# EAGLE library part MPU-9150 (library multi_fly)
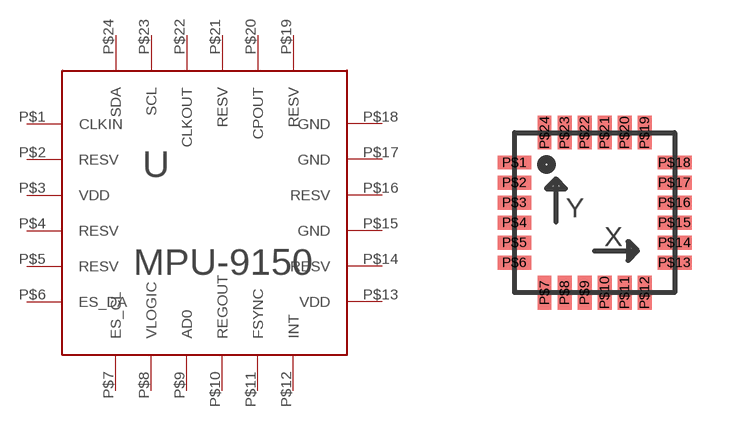
[diagram p0: symbol with the pads of MPU-9150; footprint MPU-9150]

Designator prefix -

## MPU-9150  [MPU-9150]
P$1  CLKIN
P$2  RESV
P$3  VDD
P$4  RESV
P$5  RESV
P$6  ES_DA
P$7  ES_CL
P$8  VLOGIC
P$9  AD0
P$10  REGOUT
P$11  FSYNC
P$12  INT
P$13  VDD
P$14  RESV
P$15  GND
P$16  RESV
P$17  GND
P$18  GND
P$19  RESV
P$20  CPOUT
P$21  RESV
P$22  CLKOUT
P$23  SCL
P$24  SDA

## Footprint MPU-9150 (pad centres in mm)
smd 0.85 x 0.35: P$1 -2,1.25; P$2 -2,0.75; P$3 -2,0.25; P$4 -2,-0.25; P$5 -2,-0.75; P$6 -2,-1.25; P$13 2,-1.25; P$14 2,-0.75; P$15 2,-0.25; P$16 2,0.25; P$17 2,0.75; P$18 2,1.25
smd 0.35 x 0.85: P$7 -1.25,-2; P$8 -0.75,-2; P$9 -0.25,-2; P$10 0.25,-2; P$11 0.75,-2; P$12 1.25,-2; P$19 1.25,2; P$20 0.75,2; P$21 0.25,2; P$22 -0.25,2; P$23 -0.75,2; P$24 -1.25,2